# Altium footprint library Mezeq_Connectors.PcbLib: 38 footprints (part 1 of 3)
Each footprint in its own frame and in the unit in brackets; x right, y up, seen from the top. Pads: shape width x height; smd on the part's side, far side on the other; paste and mask are expansions set on the pad; w line width, h text height; cw(c..) or ccw(c..) is an arc to the next point about the centre after c.
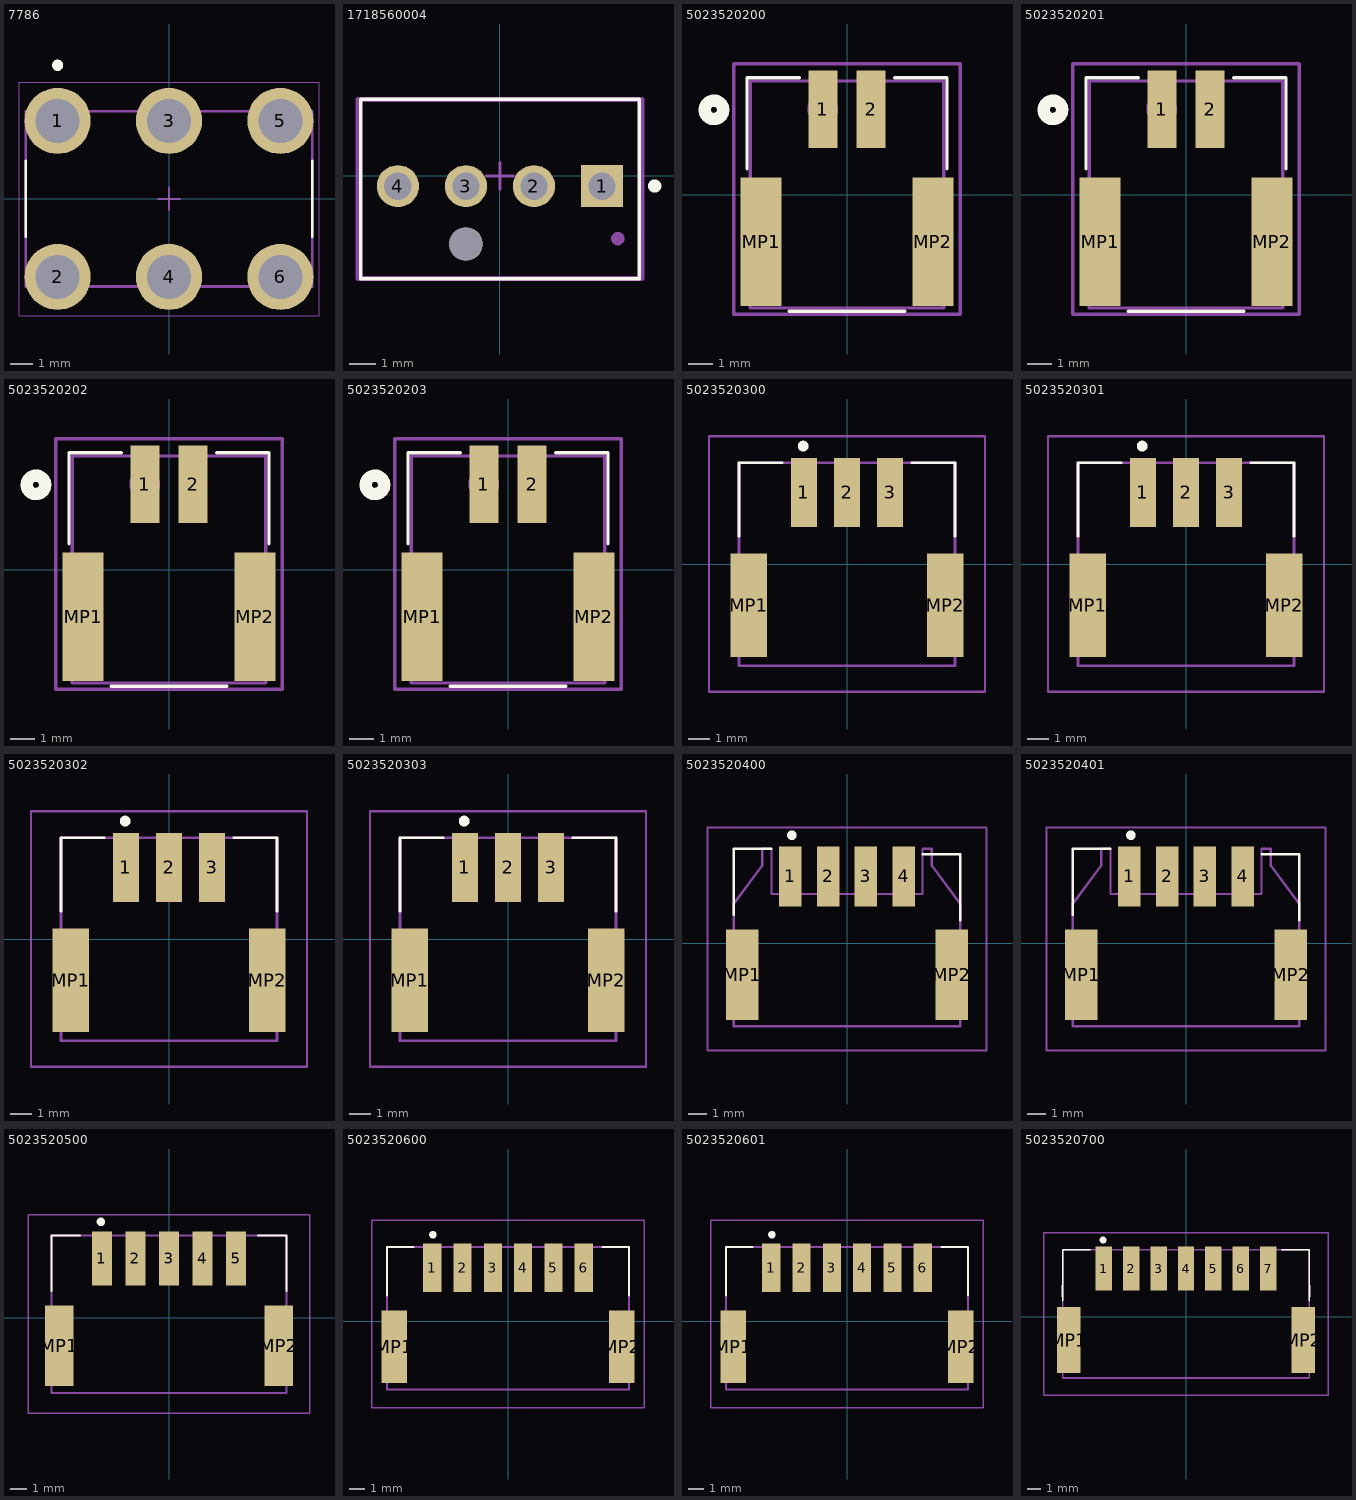
[diagram p0: the footprints below, top view; thin cyan lines are the x and y axes]

## 7786 [mm]
pads (6):
  round 2.97 hole 1.98 mask+0.05: 1(-5.005,3.505) 2(-5.005,-3.505) 3(0,3.505) 4(0,-3.505) 5(5.005,3.505) 6(5.005,-3.505)
Top Overlay:
  circle w0.25: c-5.005,6.005 r0.125
  lines w0.127: -6.44,-1.7 -6.44,1.7 ; 6.44,-1.7 6.44,1.7
Top Assembly:
  circle w0.254: c-5.461,3.048 r0.359
  lines w0.127: -6.44,-3.935 -6.44,3.935 6.44,3.935 6.44,-3.935 -6.44,-3.935
  text ".Designator" at -9.997,-0.666 h2
Top Courtyard:
  lines w0.05: -6.74,-5.24 6.74,-5.24 6.74,5.24 -6.74,5.24 -6.74,-5.24
Top Component Center:
  lines w0.1: -0.5,0 0.5,0 ; 0,-0.5 0,0.5
3D body "keystone-PN7786.STEP": height 6.35, standoff -5.33, extent -6.44,-4.508 6.438,4.508

## 1718560004 [mm] "CONN HEADER VERT 4POS 2.54MM. Footprint compatible with 47053-3000 (with board guide)."
pads (5):
  rect 1.57x1.57 hole 1.02 mask+0.05: 1(3.81,-0.38)
  round 1.57 hole 1.02 mask+0.05: 2(1.27,-0.38) 3(-1.27,-0.38) 4(-3.81,-0.38)
  round 1.25 hole 1.25 unplated mask+0.05: ""(-1.27,-2.54)
Top Overlay:
  circle w0.25: c5.775,-0.375 r0.125
  lines w0.127: -5.2,-3.83 5.2,-3.83 5.2,2.857 -5.2,2.857 -5.2,-3.83
Top Assembly:
  circle w0.25: c4.4,-2.34 r0.125
  lines w0.127: -5.3,-3.83 5.3,-3.83 5.3,2.857 -5.3,2.857 -5.3,-3.83
  text ".Designator" at -4.998,-0.333 h1
Top Courtyard:
  lines w0.2: -5.3,-3.83 5.3,-3.83 5.3,2.857 -5.3,2.857 -5.3,-3.83
Top Component Center:
  lines w0.1: -0.5,0 0.5,0 ; 0,-0.5 0,0.5
3D body "1718560004.stp": height 10.63, standoff -2.32, extent -5.004,-3.675 5.004,2.675

## 5023520200 [mm]
pads (4):
  rect 1.2x3.2 smd: 1(-1,3.529) 2(1,3.529)
  rect 1.7x5.3 smd: MP1(-3.55,-1.951) MP2(3.55,-1.951)
Top Overlay:
  circle w0.508: c-5.5,3.5 r0.381
  lines w0.127: -4.127,1.061 -4.127,4.826 -1.955,4.826 ; -2.404,-4.826 2.404,-4.826 ; 1.955,4.826 4.127,4.826 4.127,1.061
Top Assembly:
  circle w0.508: c-1,3.529 r0.381
  lines w0.127: -4,-4.699 4,-4.699 4,4.699 -4,4.699 -4,-4.699
  text ".Designator" at -7.618,-0.508 h1.52
Top Courtyard:
  lines w0.152: -4.68,-4.953 -4.68,5.409 4.68,5.409 4.68,-4.953 -4.68,-4.953
3D body "5023520200.stp": height 6.41, standoff 0.01, extent -4,-4.9 4,4.5

## 5023520201 [mm]
pads (4):
  rect 1.2x3.2 smd: 1(-1,3.529) 2(1,3.529)
  rect 1.7x5.3 smd: MP1(-3.55,-1.951) MP2(3.55,-1.951)
Top Overlay:
  circle w0.508: c-5.5,3.5 r0.381
  lines w0.127: -4.127,1.061 -4.127,4.826 -1.955,4.826 ; -2.404,-4.826 2.404,-4.826 ; 1.955,4.826 4.127,4.826 4.127,1.061
Top Assembly:
  circle w0.508: c-1,3.529 r0.381
  lines w0.127: -4,-4.699 -4,4.699 4,4.699 4,-4.699 -4,-4.699
  text ".Designator" at -7.618,-0.508 h1.52
Top Courtyard:
  lines w0.152: -4.68,-4.953 4.68,-4.953 4.68,5.409 -4.68,5.409 -4.68,-4.953
3D body "5023520200.stp": height 6.41, standoff 0.01, extent -4,-4.9 4,4.5

## 5023520202 [mm]
pads (4):
  rect 1.2x3.2 smd: 1(-1,3.529) 2(1,3.529)
  rect 1.7x5.3 smd: MP1(-3.55,-1.951) MP2(3.55,-1.951)
Top Overlay:
  circle w0.508: c-5.5,3.5 r0.381
  lines w0.127: -4.127,1.061 -4.127,4.826 -1.955,4.826 ; -2.404,-4.826 2.404,-4.826 ; 1.955,4.826 4.127,4.826 4.127,1.061
Top Assembly:
  circle w0.508: c-1,3.529 r0.381
  lines w0.127: -4,-4.699 4,-4.699 4,4.699 -4,4.699 -4,-4.699
  text ".Designator" at -7.618,-0.508 h1.52
Top Courtyard:
  lines w0.152: -4.68,-4.953 -4.68,5.409 4.68,5.409 4.68,-4.953 -4.68,-4.953
3D body "5023520200.stp": height 6.41, standoff 0.01, extent -4,-4.9 4,4.5

## 5023520203 [mm]
pads (4):
  rect 1.2x3.2 smd: 1(-1,3.529) 2(1,3.529)
  rect 1.7x5.3 smd: MP1(-3.55,-1.951) MP2(3.55,-1.951)
Top Overlay:
  circle w0.508: c-5.5,3.5 r0.381
  lines w0.127: -4.127,1.061 -4.127,4.826 -1.955,4.826 ; -2.404,-4.826 2.404,-4.826 ; 1.955,4.826 4.127,4.826 4.127,1.061
Top Assembly:
  circle w0.508: c-1,3.529 r0.381
  lines w0.127: -4,-4.699 -4,4.699 4,4.699 4,-4.699 -4,-4.699
  text ".Designator" at -7.618,-0.508 h1.52
Top Courtyard:
  lines w0.152: -4.68,-4.953 4.68,-4.953 4.68,5.409 -4.68,5.409 -4.68,-4.953
3D body "5023520200.stp": height 6.41, standoff 0.01, extent -4,-4.9 4,4.5

## 5023520300 [mm]
pads (5):
  rect 1.2x3.2 smd: 1(-2,3.32) 2(0,3.32) 3(2,3.32)
  rect 1.7x4.8 smd: MP1(-4.55,-1.91) MP2(4.55,-1.91)
Top Overlay:
  circle w0.3: c-2.032,5.461 r0.1
  lines w0.127: -5,1.28 -5,4.69 -3,4.69 ; 3,4.69 5,4.69 5,1.28
Top Assembly:
  circle w0.127: c-2,3.32 r0.215
  lines w0.127: -5,-4.71 -5,4.69 5,4.69 5,-4.71 -5,-4.71
  text ".Designator" at -7.618,-0.508 h1.52
Top Courtyard:
  lines w0.1: -6.4,-5.92 6.4,-5.92 6.4,5.92 -6.4,5.92 -6.4,-5.92
3D body "5023520303.stp": height 6.4, standoff 0, extent -5,-4.7 5,4.7

## 5023520301 [mm]
pads (5):
  rect 1.2x3.2 smd: 1(-2,3.32) 2(0,3.32) 3(2,3.32)
  rect 1.7x4.8 smd: MP1(-4.55,-1.91) MP2(4.55,-1.91)
Top Overlay:
  circle w0.3: c-2.032,5.461 r0.1
  lines w0.127: -5,1.28 -5,4.69 -3,4.69 ; 3,4.69 5,4.69 5,1.28
Top Assembly:
  circle w0.127: c-2,3.32 r0.215
  lines w0.127: -5,-4.71 5,-4.71 5,4.69 -5,4.69 -5,-4.71
  text ".Designator" at -7.618,-0.508 h1.52
Top Courtyard:
  lines w0.1: -6.4,-5.92 -6.4,5.92 6.4,5.92 6.4,-5.92 -6.4,-5.92
3D body "5023520303.stp": height 6.4, standoff 0, extent -5,-4.7 5,4.7

## 5023520302 [mm]
pads (5):
  rect 1.2x3.2 smd: 1(-2,3.32) 2(0,3.32) 3(2,3.32)
  rect 1.7x4.8 smd: MP1(-4.55,-1.91) MP2(4.55,-1.91)
Top Overlay:
  circle w0.3: c-2.032,5.461 r0.1
  lines w0.127: -5,1.28 -5,4.69 -3,4.69 ; 3,4.69 5,4.69 5,1.28
Top Assembly:
  circle w0.127: c-2,3.32 r0.215
  lines w0.127: -5,-4.71 5,-4.71 5,4.69 -5,4.69 -5,-4.71
  text ".Designator" at -7.618,-0.508 h1.52
Top Courtyard:
  lines w0.1: -6.4,-5.92 -6.4,5.92 6.4,5.92 6.4,-5.92 -6.4,-5.92
3D body "5023520303.stp": height 6.4, standoff 0, extent -5,-4.7 5,4.7

## 5023520303 [mm]
pads (5):
  rect 1.2x3.2 smd: 1(-2,3.32) 2(0,3.32) 3(2,3.32)
  rect 1.7x4.8 smd: MP1(-4.55,-1.91) MP2(4.55,-1.91)
Top Overlay:
  circle w0.3: c-2.032,5.461 r0.1
  lines w0.127: -5,1.28 -5,4.69 -3,4.69 ; 3,4.69 5,4.69 5,1.28
Top Assembly:
  circle w0.127: c-2,3.32 r0.215
  lines w0.127: -5,-4.71 5,-4.71 5,4.69 -5,4.69 -5,-4.71
  text ".Designator" at -7.618,-0.508 h1.52
Top Courtyard:
  lines w0.1: -6.4,-5.92 -6.4,5.92 6.4,5.92 6.4,-5.92 -6.4,-5.92
3D body "5023520303.stp": height 6.4, standoff 0, extent -5,-4.7 5,4.7

## 5023520400 [mm] "CONN HEADER SMD R/A 4POS 2MM"
pads (6):
  rect 1.2x3.2 smd: 1(-3,3.53) 2(-1,3.53) 3(1,3.53) 4(3,3.53)
  rect 1.7x4.8 smd: MP1(-5.55,-1.69) MP2(5.55,-1.69)
Top Overlay:
  circle w0.3: c-2.921,5.715 r0.1
  lines w0.127: -6,1.5 -6,5 -4,5 ; 4,4.7 6,4.7 6,1.2
Top Assembly:
  circle w0.127: c-3,3.53 r0.257
  lines w0.127: -6,-4.4 -6,2.1 -4.5,4.1 -4.5,5 -4,5 -4,2.6 4,2.6 4,5 4.5,5 4.5,4.1 6,2.1 6,-4.4 0,-4.4 -6,-4.4
  text ".Designator" at -7.618,-0.508 h1.52
Top Courtyard:
  lines w0.1: -7.4,-5.7 -7.4,6.13 7.4,6.13 7.4,-5.7 -7.4,-5.7
3D body "502352-0400.stp": height 6.4, standoff 0, extent -6,-4.4 6,5

## 5023520401 [mm] "CONN HEADER SMD R/A 4POS 2MM"
pads (6):
  rect 1.2x3.2 smd: 1(-3,3.53) 2(-1,3.53) 3(1,3.53) 4(3,3.53)
  rect 1.7x4.8 smd: MP1(-5.55,-1.69) MP2(5.55,-1.69)
Top Overlay:
  circle w0.3: c-2.921,5.715 r0.1
  lines w0.127: -6,1.5 -6,5 -4,5 ; 4,4.7 6,4.7 6,1.2
Top Assembly:
  circle w0.127: c-3,3.53 r0.257
  lines w0.127: -6,-4.4 -6,2.1 -4.5,4.1 -4.5,5 -4,5 -4,2.6 4,2.6 4,5 4.5,5 4.5,4.1 6,2.1 6,-4.4 0,-4.4 -6,-4.4
  text ".Designator" at -7.618,-0.508 h1.52
Top Courtyard:
  lines w0.1: -7.4,-5.7 -7.4,6.13 7.4,6.13 7.4,-5.7 -7.4,-5.7
3D body "502352-0400.stp": height 6.4, standoff 0, extent -6,-4.4 6,5

## 5023520500 [mm]
pads (7):
  rect 1.2x3.2 smd: 1(-4,3.53) 2(-2,3.53) 3(0,3.53) 4(2,3.53) 5(4,3.53)
  rect 1.7x4.8 smd: MP1(-6.55,-1.69) MP2(6.55,-1.69)
Top Overlay:
  circle w0.3: c-4.064,5.715 r0.1
  lines w0.127: -7,1.6 -7,4.9 -5.3,4.9 ; 5.3,4.9 7,4.9 7,1.6
Top Assembly:
  circle w0.127: c-4,3.53 r0.257
  lines w0.127: -7,-4.5 7,-4.5 7,4.9 -7,4.9 -7,-4.5
  text ".Designator" at -7.618,-0.508 h1.52
Top Courtyard:
  lines w0.1: -8.4,-5.7 8.4,-5.7 8.4,6.13 -8.4,6.13 -8.4,-5.7
3D body "5023520500.stp": height 6.4, standoff 0, extent -7,-4.489 7,4.911

## 5023520600 [mm]
pads (8):
  rect 1.2x3.2 smd: 1(-5,3.53) 2(-3,3.53) 3(-1,3.53) 4(1,3.53) 5(3,3.53) 6(5,3.53)
  rect 1.7x4.8 smd: MP1(-7.5,-1.69) MP2(7.5,-1.69)
Top Overlay:
  circle w0.3: c-4.953,5.715 r0.1
  lines w0.127: -8,4.9 -6.25,4.9 -8,4.9 ; -8,4.9 -8,1.7 -8,4.9 ; 8,4.9 8,1.7 8,4.9 ; 8,4.9 6.25,4.9 8,4.9
Top Assembly:
  circle w0.127: c-5,3.53 r0.257
  lines w0.127: -8,-4.5 8,-4.5 8,4.9 -8,4.9 -8,-4.5
  text ".Designator" at -7.618,-0.508 h1.52
Top Courtyard:
  lines w0.1: -9,-5.7 9,-5.7 9,6.65 -9,6.65 -9,-5.7
3D body "5023520603.stp": height 6.4, standoff 0, extent -8,-4.45 8,4.95

## 5023520601 [mm]
pads (8):
  rect 1.2x3.2 smd: 1(-5,3.53) 2(-3,3.53) 3(-1,3.53) 4(1,3.53) 5(3,3.53) 6(5,3.53)
  rect 1.7x4.8 smd: MP1(-7.5,-1.69) MP2(7.5,-1.69)
Top Overlay:
  circle w0.3: c-4.953,5.715 r0.1
  lines w0.127: -8,4.9 -6.25,4.9 -8,4.9 ; -8,4.9 -8,1.7 -8,4.9 ; 8,4.9 8,1.7 8,4.9 ; 8,4.9 6.25,4.9 8,4.9
Top Assembly:
  circle w0.127: c-5,3.53 r0.257
  lines w0.127: -8,-4.5 8,-4.5 8,4.9 -8,4.9 -8,-4.5
  text ".Designator" at -7.618,-0.508 h1.52
Top Courtyard:
  lines w0.1: -9,-5.7 9,-5.7 9,6.65 -9,6.65 -9,-5.7
3D body "5023520603.stp": height 6.4, standoff 0, extent -8,-4.45 8,4.95

## 5023520700 [mm]
pads (9):
  rect 1.2x3.2 smd: 1(-6,3.53) 2(-4,3.53) 3(-2,3.53) 4(0,3.53) 5(2,3.53) 6(4,3.53) 7(6,3.53)
  rect 1.7x4.8 smd: MP1(-8.55,-1.69) MP2(8.55,-1.69)
Top Overlay:
  circle w0.3: c-6.053,5.615 r0.1
  lines w0.127: -9,1.2 -9,4.9 -7,4.9 ; 7,4.9 9,4.9 9,1.2
  lines w0.15: -9,1.5 -9,2.3 ; 9,1.5 9,2.3
Top Assembly:
  circle w0.127: c-6,3.53 r0.266
  lines w0.127: -9,-4.462 -3.812,-4.462 9,-4.462 9,4.9 -7.65,4.9 -9,4.9 -9,-4.462
  text ".Designator" at -7.618,-0.508 h1.52
Top Courtyard:
  lines w0.1: -10.4,-5.7 -10.4,6.13 10.4,6.13 10.4,-5.7 -10.4,-5.7
3D body "502352-0700.stp": height 6.41, standoff 0.01, extent -9,-4.48 9,4.92